# Altium footprint library PUSH.PcbLib: 1 footprints
Each footprint in its own frame and in the unit in brackets; x right, y up, seen from the top. Pads: shape width x height; smd on the part's side, far side on the other; paste and mask are expansions set on the pad; w line width, h text height; cw(c..) or ccw(c..) is an arc to the next point about the centre after c.
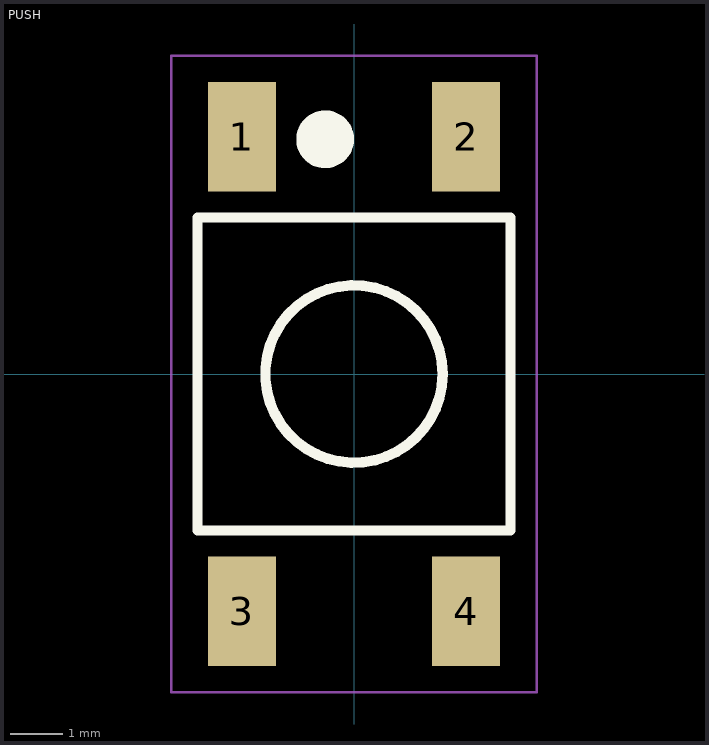
[diagram p0: the footprint, top view; thin cyan lines are the x and y axes]

## PUSH [mm] "Push-Switch"
height 3.5
pads (4):
  rect 1.3x2.1 smd: 1(-2.15,4.55) 2(2.15,4.55) 3(-2.15,-4.55) 4(2.15,-4.55)
Top Overlay:
  circle w0.2: c0,0 r1.7
  circle w0.6: c-0.554,4.5 r0.254
  lines w0.2: -3,-3 3,-3 3,3 -3,3 -3,-3
Mechanical 15:
  lines w0.05: -3.5,-6.1 -3.5,6.1 3.5,6.1 3.5,-6.1 -3.5,-6.1
3D body: height 3.5, standoff 0, extent -2.999,-2.975 2.999,3.019
3D body: height 4.5, standoff 0, extent -1.758,-1.758 1.758,1.758